# Altium footprint library Jump.PcbLib: 81 footprints (part 3 of 6)
Each footprint in its own frame and in the unit in brackets; x right, y up, seen from the top. Pads: shape width x height; smd on the part's side, far side on the other; paste and mask are expansions set on the pad; w line width, h text height; cw(c..) or ccw(c..) is an arc to the next point about the centre after c.
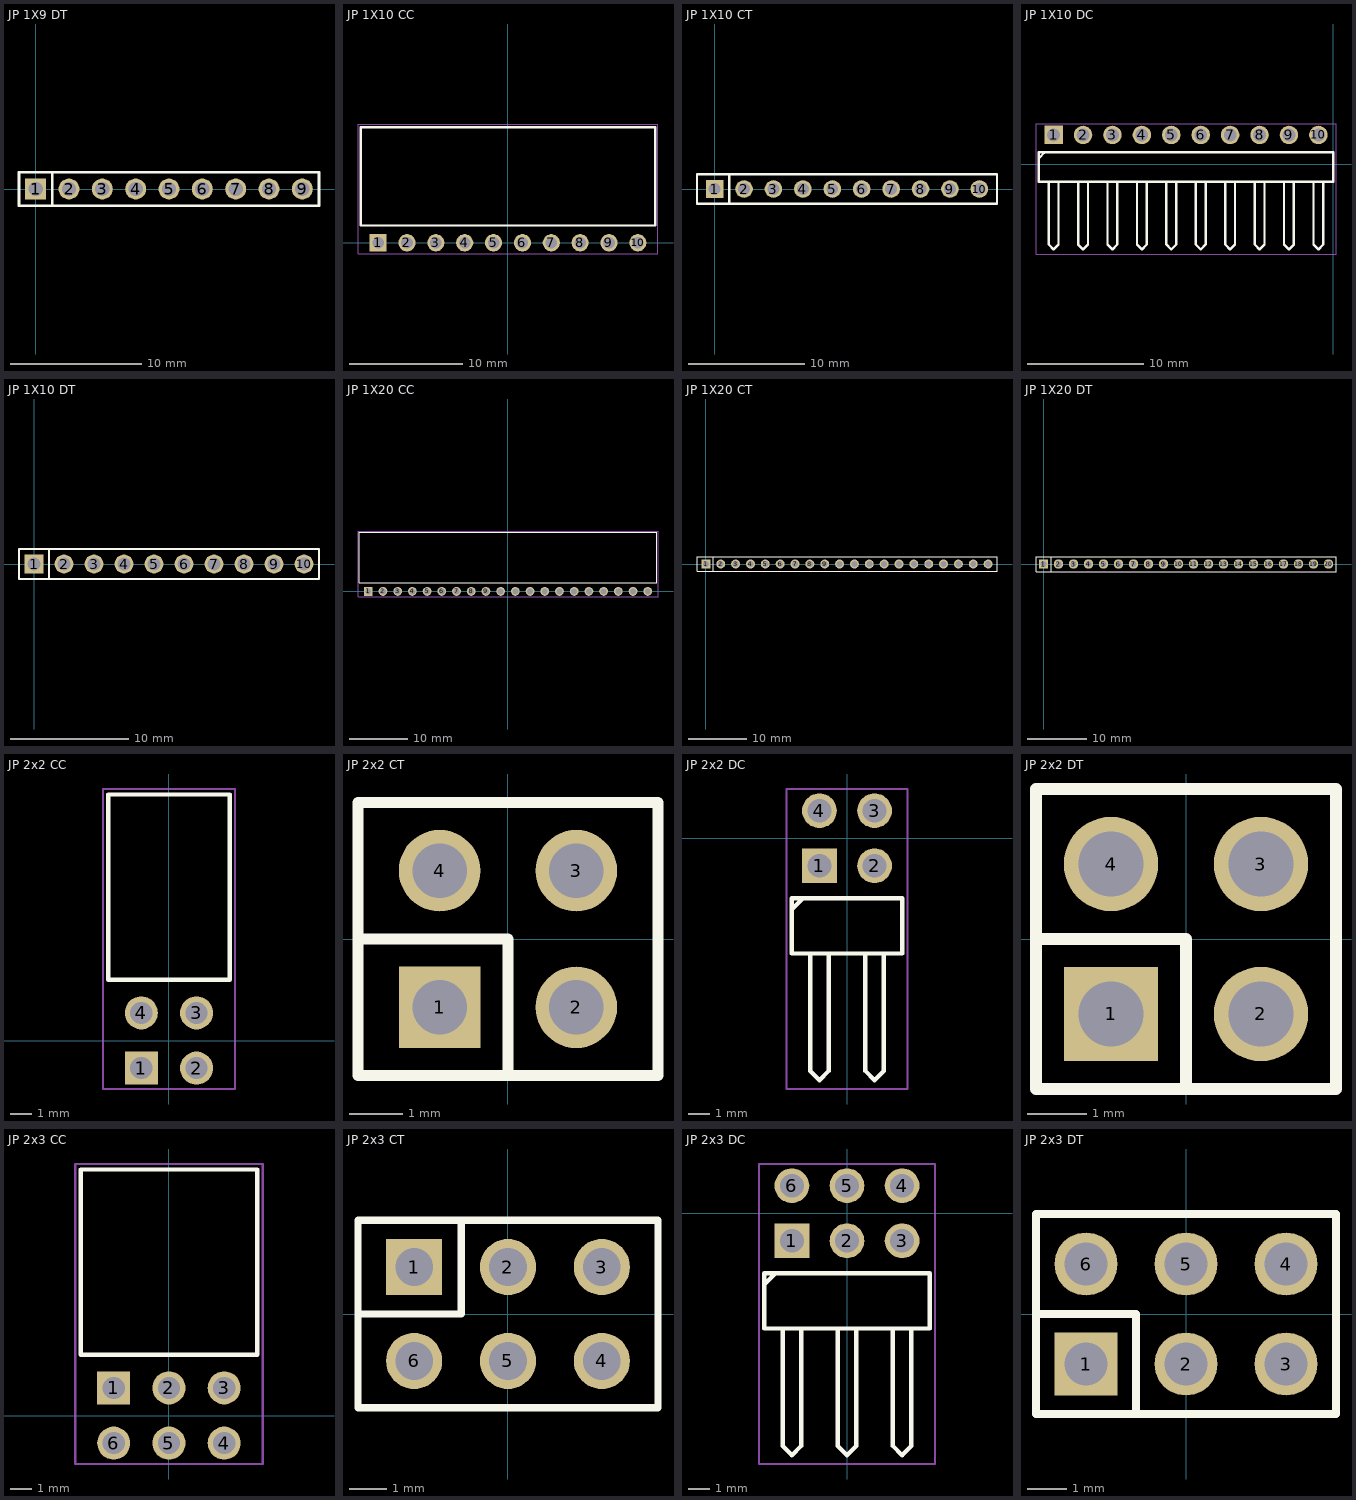
[diagram p2: the footprints below, top view; thin cyan lines are the x and y axes]

## JP 1X9 DT [mm] "9 pins, 1 row, straight, gold plating"
height 8.54
pads (9):
  rect 1.6x1.6 hole 1.1: 1(0,0)
  round 1.6 hole 1.1: 2(2.54,0) 3(5.08,0) 4(7.62,0) 5(10.16,0) 6(12.7,0) 7(15.24,0) 8(17.78,0) 9(20.32,0)
Top Overlay:
  lines w0.2: 1.27,-1.27 1.27,1.27 ; -1.27,-1.27 21.59,-1.27 21.59,1.27 -1.27,1.27 -1.27,-1.27
3D body "61300911121.stp": height 8.54, standoff -3, extent -1.27,-1.27 21.59,1.27

## JP 1X10 CC [mm] "10p 1 row Right angle"
height 2.5
pads (10):
  rect 1.52x1.52 hole 1.02: 1(-11.43,0)
  round 1.52 hole 1.02: 2(-8.89,0) 3(-6.35,0) 4(-3.81,0) 5(-1.27,0) 6(1.27,0) 7(3.81,0) 8(6.35,0) 9(8.89,0) 10(11.43,0)
Top Overlay:
  lines w0.2: -12.954,1.524 12.954,1.524 12.954,10.173 -12.954,10.173 -12.954,1.524
Mechanical 15:
  lines w0.1: -13.2,-0.96 13.204,-0.96 13.204,10.423 -13.2,10.423 -13.2,-0.96
3D body "613010143121.stp": height 2.51, standoff -3.08, extent -12.95,-0.208 12.95,10.092

## JP 1X10 CT [mm] "10 row, straight, gold plating"
height 8.5
pads (10):
  rect 1.52x1.52 hole 1.02: 1(0,0)
  round 1.52 hole 1.02: 2(2.54,0) 3(5.08,0) 4(7.62,0) 5(10.16,0) 6(12.7,0) 7(15.24,0) 8(17.78,0) 9(20.32,0) 10(22.86,0)
Top Overlay:
  lines w0.2: 1.27,-1.27 1.27,1.27 ; -1.52,-1.27 -1.52,1.27 0.635,1.27 24.38,1.27 24.38,-1.27 -1.52,-1.27
3D body "61301011821.stp": height 8.51, standoff -3.09, extent -1.52,-1.25 24.38,1.25

## JP 1X10 DC [mm] "10 pins, 1 row, right angled, gold plating"
height 2.54
pads (10):
  rect 1.6x1.6 hole 1.1: 1(-24.13,2.54)
  round 1.6 hole 1.1: 2(-21.59,2.54) 3(-19.05,2.54) 4(-16.51,2.54) 5(-13.97,2.54) 6(-11.43,2.54) 7(-8.89,2.54) 8(-6.35,2.54) 9(-3.81,2.54) 10(-1.27,2.54)
Top Overlay:
  lines w0.2: -25.358,0.574 -24.934,0.998 ; -24.553,-1.525 -24.553,-6.919 -24.13,-7.342 -23.707,-6.919 -23.707,-1.5 ; -22.013,-1.525 -22.013,-6.919 -21.59,-7.342 -21.167,-6.919 -21.167,-1.525 ; -19.473,-1.525 -19.473,-6.919 -19.05,-7.342 -18.627,-6.919 -18.627,-1.5 ; -16.933,-1.525 -16.933,-6.919 -16.51,-7.342 -16.087,-6.919 -16.087,-1.525 ; -14.393,-1.525 -14.393,-6.919 -13.97,-7.342 -13.547,-6.919 -13.547,-1.5 ; -11.853,-1.525 -11.853,-6.919 -11.43,-7.342 -11.007,-6.919 -11.007,-1.525 ; -9.313,-1.525 -9.313,-6.919 -8.89,-7.342 -8.467,-6.919 -8.467,-1.5 ; -6.773,-1.525 -6.773,-6.919 -6.35,-7.342 -5.927,-6.919 -5.927,-1.525 ; -4.233,-1.525 -4.233,-6.919 -3.81,-7.342 -3.387,-6.919 -3.387,-1.5 ; -1.693,-1.525 -1.693,-6.919 -1.27,-7.342 -0.847,-6.919 -0.847,-1.525 ; -25.4,-1.5 -25.4,1.04 0,1.04 0,-1.5 -25.4,-1.5
Mechanical 15:
  lines w0.1: -25.65,-7.75 -25.65,3.5 0.25,3.5 0.25,-7.75 -25.65,-7.75
3D body "61301011021.stp": height 2.55, standoff -2.99, extent -25.4,-7.524 0,2.836

## JP 1X10 DT [mm] "10 pins, 1 row, straight, gold plating"
height 8.54
pads (10):
  rect 1.6x1.6 hole 1.1: 1(0,0)
  round 1.6 hole 1.1: 2(2.54,0) 3(5.08,0) 4(7.62,0) 5(10.16,0) 6(12.7,0) 7(15.24,0) 8(17.78,0) 9(20.32,0) 10(22.86,0)
Top Overlay:
  lines w0.2: 1.27,-1.27 1.27,1.27 ; -1.27,-1.27 -1.27,1.27 0.635,1.27 24.13,1.27 24.13,-1.27 -1.27,-1.27
3D body "61301011121.stp": height 8.54, standoff -3, extent -1.27,-1.27 24.13,1.27

## JP 1X20 CC [mm] "20p 1 row Right angle"
height 2.5
pads (20):
  rect 1.52x1.52 hole 1.02: 1(-24.13,0)
  round 1.52 hole 1.02: 2(-21.59,0) 3(-19.05,0) 4(-16.51,0) 5(-13.97,0) 6(-11.43,0) 7(-8.89,0) 8(-6.35,0) 9(-3.81,0) 10(-1.27,0) 11(1.27,0) 12(3.81,0) 13(6.35,0) 14(8.89,0) 15(11.43,0) 16(13.97,0) 17(16.51,0) 18(19.05,0) 19(21.59,0) 20(24.13,0)
Top Overlay:
  lines w0.2: -25.654,1.524 -25.654,10.173 25.654,10.173 25.654,1.524 -25.654,1.524
Mechanical 15:
  lines w0.1: -25.9,-0.96 -25.9,10.423 25.904,10.423 25.904,-0.96 -25.9,-0.96
3D body "613020143121.stp": height 2.51, standoff -3.08, extent -25.65,-0.208 25.65,10.092

## JP 1X20 CT [mm] "20 row, straight, gold plating"
height 8.5
pads (20):
  rect 1.52x1.52 hole 1.02: 1(0,0)
  round 1.52 hole 1.02: 2(2.54,0) 3(5.08,0) 4(7.62,0) 5(10.16,0) 6(12.7,0) 7(15.24,0) 8(17.78,0) 9(20.32,0) 10(22.86,0) 11(25.4,0) 12(27.94,0) 13(30.48,0) 14(33.02,0) 15(35.56,0) 16(38.1,0) 17(40.64,0) 18(43.18,0) 19(45.72,0) 20(48.26,0)
Top Overlay:
  lines w0.2: 1.27,-1.27 1.27,1.27 ; -1.52,-1.27 49.78,-1.27 49.78,1.27 0.635,1.27 -1.52,1.27 -1.52,-1.27
3D body "61302011821.stp": height 8.51, standoff -3.09, extent -1.52,-1.25 49.78,1.25

## JP 1X20 DT [mm] "20 pins, 1 row, straight, gold plating"
height 8.54
pads (20):
  rect 1.6x1.6 hole 1.1: 1(0,0)
  round 1.6 hole 1.1: 2(2.54,0) 3(5.08,0) 4(7.62,0) 5(10.16,0) 6(12.7,0) 7(15.24,0) 8(17.78,0) 9(20.32,0) 10(22.86,0) 11(25.4,0) 12(27.94,0) 13(30.48,0) 14(33.02,0) 15(35.56,0) 16(38.1,0) 17(40.64,0) 18(43.18,0) 19(45.72,0) 20(48.26,0)
Top Overlay:
  lines w0.2: 1.27,-1.27 1.27,1.27 ; -1.27,-1.27 49.53,-1.27 49.53,1.27 0.635,1.27 -1.27,1.27 -1.27,-1.27
3D body "61302011121.stp": height 8.54, standoff -3, extent -1.27,-1.27 49.53,1.27

## JP 2x2 CC [mm] "JP 2x2 CC"
height 5.08
pads (4):
  rect 1.52x1.52 hole 1.02: 1(-1.27,-1.27)
  round 1.52 hole 1.02: 2(1.27,-1.27) 3(1.27,1.27) 4(-1.27,1.27)
Top Overlay:
  lines w0.2: -2.794,2.794 2.794,2.794 2.794,11.316 -2.794,11.316 -2.794,2.794
Mechanical 15:
  lines w0.1: -3.04,-2.23 -3.04,11.566 3.044,11.566 3.044,-2.23 -3.04,-2.23
3D body "613004243121.stp": height 5.09, standoff -4.46, extent -2.79,-1.524 2.79,11.316

## JP 2x2 CT [mm] "JP 2x2 CT"
height 8.5
pads (4):
  rect 1.52x1.52 hole 1.02: 1(-1.27,-1.27)
  round 1.52 hole 1.02: 2(1.27,-1.27) 3(1.27,1.27) 4(-1.27,1.27)
Top Overlay:
  lines w0.2: -2.79,0 0,0 0,-2.54 ; -2.79,-2.54 -2.79,2.54 2.79,2.54 2.79,-2.54 -2.79,-2.54
3D body "61300421821.stp": height 8.51, standoff -3.09, extent -2.79,-2.54 2.79,2.54

## JP 2x2 DC [mm] "JP 2x2 DC"
height 5.08
pads (4):
  rect 1.6x1.6 hole 1.1: 1(-1.27,-1.27)
  round 1.6 hole 1.1: 2(1.27,-1.27) 3(1.27,1.27) 4(-1.27,1.27)
Top Overlay:
  lines w0.2: -2.498,-3.236 -2.074,-2.812 ; -1.693,-5.335 -1.693,-10.729 -1.27,-11.152 -0.847,-10.729 -0.847,-5.31 ; 0.847,-5.335 0.847,-10.729 1.27,-11.152 1.693,-10.729 1.693,-5.335 ; -2.54,-5.31 -2.54,-2.77 2.54,-2.77 2.54,-5.31 -2.54,-5.31
Mechanical 15:
  lines w0.1: -2.79,-11.56 -2.79,2.27 2.79,2.27 2.79,-11.56 -2.79,-11.56
3D body "61300421021.stp": height 5.09, standoff -2.99, extent -2.54,-11.376 2.54,1.524

## JP 2x2 DT [mm] "JP 2x2 DT"
height 8.54
pads (4):
  rect 1.6x1.6 hole 1.1: 1(-1.27,-1.27)
  round 1.6 hole 1.1: 2(1.27,-1.27) 3(1.27,1.27) 4(-1.27,1.27)
Top Overlay:
  lines w0.2: -2.54,0 0,0 0,-2.54 ; -2.54,-2.54 2.54,-2.54 2.54,2.54 -2.54,2.54 -2.54,-2.54
3D body "61300421121.stp": height 8.55, standoff -2.99, extent -2.54,-2.54 2.54,2.54

## JP 2x3 CC [mm]
height 5.08
pads (6):
  rect 1.52x1.52 hole 1.02: 1(-2.54,1.27)
  round 1.52 hole 1.02: 2(0,1.27) 3(2.54,1.27) 4(2.54,-1.27) 5(0,-1.27) 6(-2.54,-1.27)
Top Overlay:
  lines w0.2: -4.064,2.794 -4.064,11.316 4.064,11.316 4.064,2.794 -4.064,2.794
Mechanical 15:
  lines w0.1: -4.31,-2.23 4.314,-2.23 4.314,11.566 -4.31,11.566 -4.31,-2.23
3D body "613006243121.stp": height 5.09, standoff -4.46, extent -4.06,-1.524 4.06,11.316

## JP 2x3 CT [mm]
height 8.5
pads (6):
  rect 1.52x1.52 hole 1.02: 1(-2.54,1.27)
  round 1.52 hole 1.02: 2(0,1.27) 3(2.54,1.27) 4(2.54,-1.27) 5(0,-1.27) 6(-2.54,-1.27)
Top Overlay:
  lines w0.2: -4.06,0 -1.27,0 -1.27,2.54 ; -4.06,-2.54 -4.06,2.54 4.06,2.54 4.06,-2.54 -4.06,-2.54
3D body "61300621821.stp": height 8.51, standoff -3.09, extent -4.06,-2.54 4.06,2.54

## JP 2x3 DC [mm]
height 5.08
pads (6):
  rect 1.6x1.6 hole 1.1: 1(-2.54,-1.27)
  round 1.6 hole 1.1: 2(0,-1.27) 3(2.54,-1.27) 4(2.54,1.27) 5(0,1.27) 6(-2.54,1.27)
Top Overlay:
  lines w0.2: -3.768,-3.236 -3.344,-2.812 ; -2.963,-5.335 -2.963,-10.729 -2.54,-11.152 -2.117,-10.729 -2.117,-5.31 ; -0.423,-5.335 -0.423,-10.729 0,-11.152 0.423,-10.729 0.423,-5.335 ; 2.117,-5.335 2.117,-10.729 2.54,-11.152 2.963,-10.729 2.963,-5.31 ; -3.81,-5.31 3.81,-5.31 3.81,-2.77 -3.81,-2.77 -3.81,-5.31
Mechanical 15:
  lines w0.1: -4.06,-11.56 4.06,-11.56 4.06,2.27 -4.06,2.27 -4.06,-11.56
3D body "61300621021.stp": height 5.09, standoff -2.99, extent -3.81,-11.249 3.81,1.651

## JP 2x3 DT [mm]
height 8.54
pads (6):
  rect 1.6x1.6 hole 1.1: 1(-2.54,-1.27)
  round 1.6 hole 1.1: 2(0,-1.27) 3(2.54,-1.27) 4(2.54,1.27) 5(0,1.27) 6(-2.54,1.27)
Top Overlay:
  lines w0.2: -3.81,0 -1.27,0 -1.27,-2.54 ; -3.81,-2.54 3.81,-2.54 3.81,2.54 -3.81,2.54 -3.81,-2.54
3D body "61300621121.stp": height 8.55, standoff -2.99, extent -3.81,-2.54 3.81,2.54